# Altium schematic symbol library Linear Regulator SOT223.SchLib: 1 symbol
Pins are listed as number, name and electrical type; pins without a type are passive.

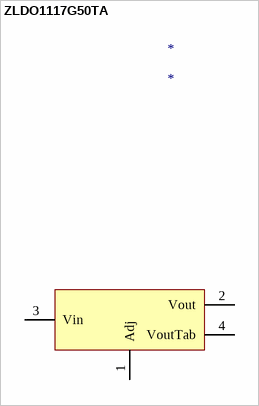
[diagram p0: symbol ZLDO1117G50TA]

## ZLDO1117G50TA
designator *
footprint SOT223
pins: 1 Adj, 2 Vout, 3 Vin, 4 VoutTab